# Altium footprint library Indicator.PcbLib: 51 footprints (part 1 of 4)
Each footprint in its own frame and in the unit in brackets; x right, y up, seen from the top. Pads: shape width x height; smd on the part's side, far side on the other; paste and mask are expansions set on the pad; w line width, h text height; cw(c..) or ccw(c..) is an arc to the next point about the centre after c.
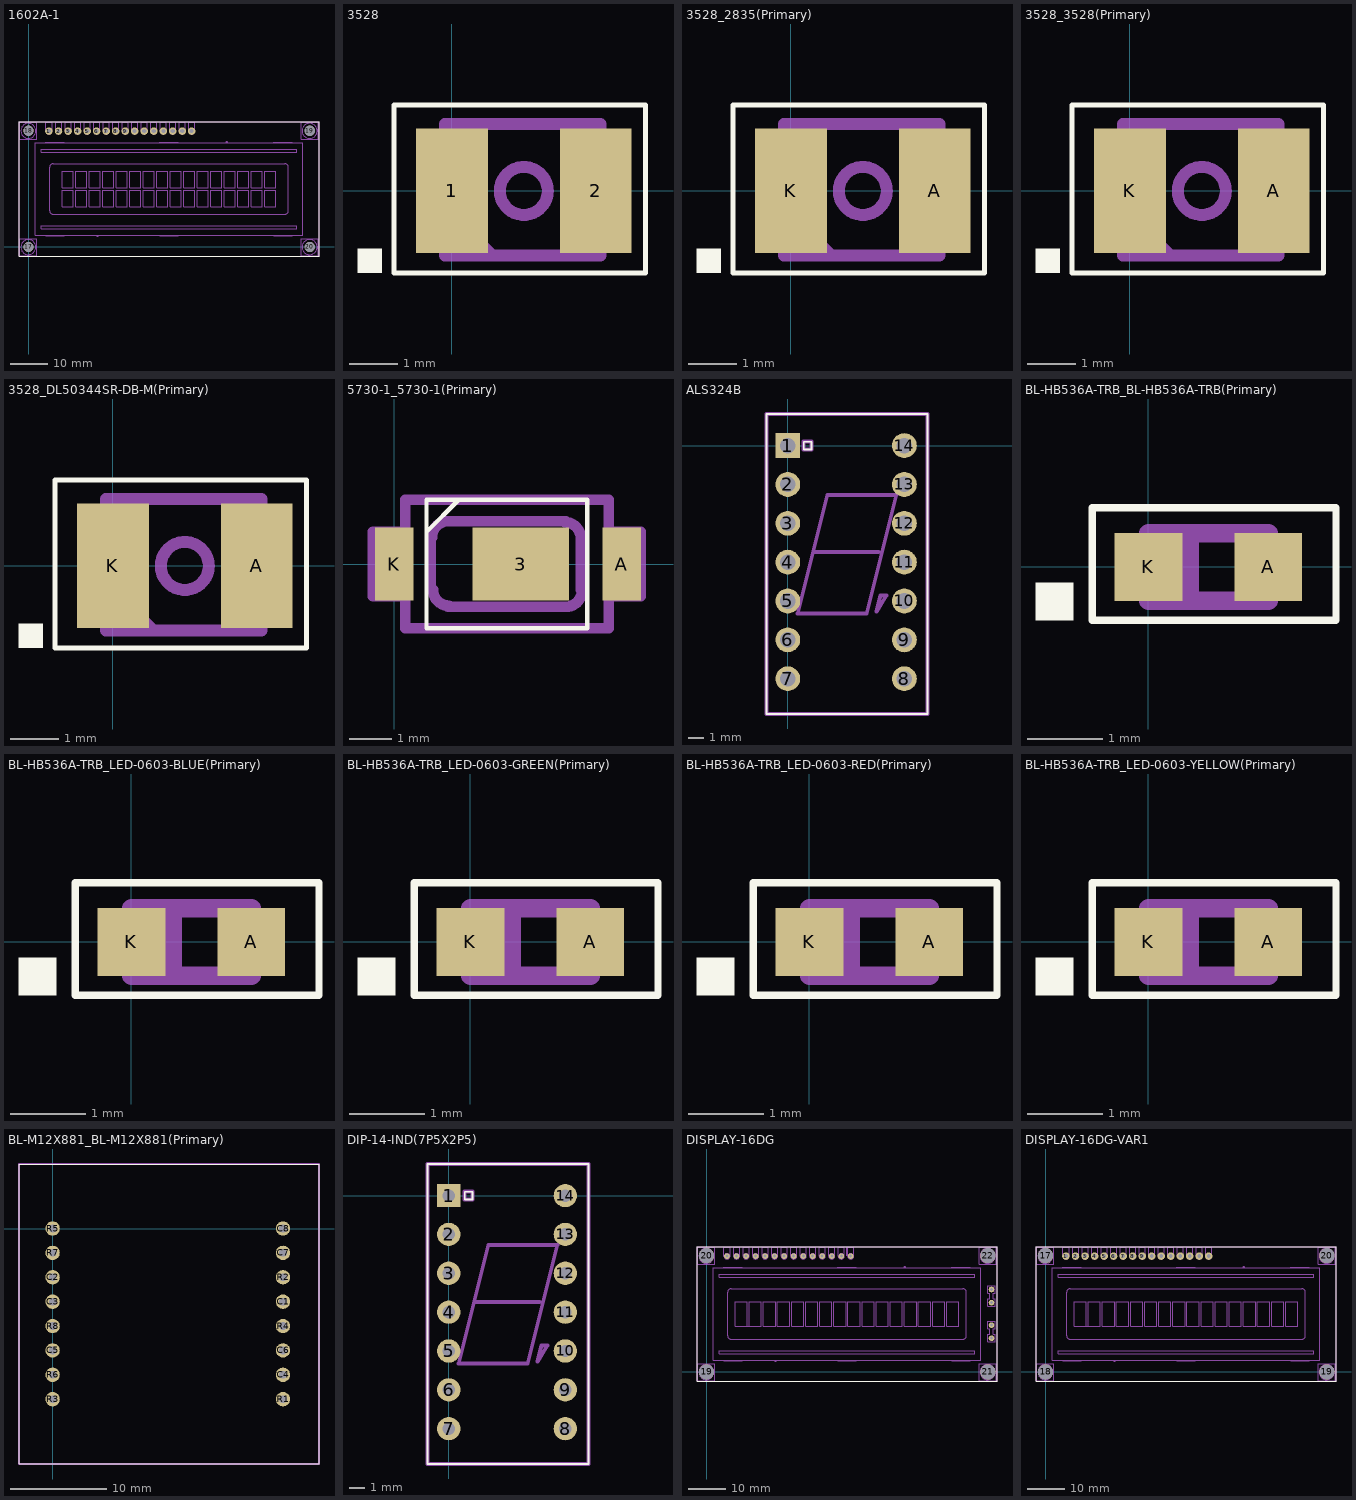
[diagram p0: the footprints below, top view; thin cyan lines are the x and y axes]

## 1602A-1 [mm]
pads (20):
  round 2 hole 1.1: 1(5.45,30.9) 2(8,30.9) 3(10.55,30.9) 4(13.1,30.9) 5(15.65,30.9) 6(18.15,30.9) 7(20.7,30.9) 8(23.25,30.9) 9(25.8,30.9) 10(28.3,30.9) 11(30.85,30.9) 12(33.4,30.9) 13(35.95,30.9) 14(38.45,30.9) 15(41,30.9) 16(43.5,30.9)
  round 2.7 hole 2.7 unplated: 17(0,0) 18(0,31) 19(75,31) 20(75,0)
Top Overlay:
  lines w0.1: -2.54,-2.54 77.46,-2.54 77.46,33.46 -2.54,33.46 -2.54,-2.54
Mechanical 1:
  drawing of 276 lines, arcs and shapes, not listed

## 3528 [mm]
pads (2):
  rect 1.5x2.6 smd: 1(0,0) 2(3,0)
Top Overlay:
  region: -1.96,-1.71 -1.46,-1.71 -1.46,-1.21 -1.96,-1.21
  lines w0.1: -1.21,-1.71 4.04,-1.71 4.04,1.79 -1.21,1.79 -1.21,-1.71
Mechanical 1:
  lines w0.25: -0.15,-0.35 0.85,-1.35 ; -0.15,-1.35 3.1,-1.35 3.1,1.4 -0.15,1.4 -0.15,-1.35 ; 1,0 ccw(c1.5,0) 2,0 ccw(c1.5,0) 1,0

## 3528_2835(Primary) [mm]
pads (2):
  rect 1.5x2.6 smd: A(3,0) K(0,0)
Top Overlay:
  region: -1.96,-1.71 -1.46,-1.71 -1.46,-1.21 -1.96,-1.21
  lines w0.1: -1.21,-1.71 4.04,-1.71 4.04,1.79 -1.21,1.79 -1.21,-1.71
Mechanical 1:
  lines w0.25: -0.15,-0.35 0.85,-1.35 ; -0.15,-1.35 3.1,-1.35 3.1,1.4 -0.15,1.4 -0.15,-1.35 ; 1,0 ccw(c1.5,0) 2,0 ccw(c1.5,0) 1,0

## 3528_3528(Primary) [mm]
pads (2):
  rect 1.5x2.6 smd: A(3,0) K(0,0)
Top Overlay:
  region: -1.96,-1.71 -1.46,-1.71 -1.46,-1.21 -1.96,-1.21
  lines w0.1: -1.21,-1.71 4.04,-1.71 4.04,1.79 -1.21,1.79 -1.21,-1.71
Mechanical 1:
  lines w0.25: -0.15,-0.35 0.85,-1.35 ; -0.15,-1.35 3.1,-1.35 3.1,1.4 -0.15,1.4 -0.15,-1.35 ; 1,0 ccw(c1.5,0) 2,0 ccw(c1.5,0) 1,0

## 3528_DL50344SR-DB-M(Primary) [mm]
pads (2):
  rect 1.5x2.6 smd: A(3,0) K(0,0)
Top Overlay:
  region: -1.96,-1.71 -1.46,-1.71 -1.46,-1.21 -1.96,-1.21
  lines w0.1: -1.21,-1.71 4.04,-1.71 4.04,1.79 -1.21,1.79 -1.21,-1.71
Mechanical 1:
  lines w0.25: -0.15,-0.35 0.85,-1.35 ; -0.15,-1.35 3.1,-1.35 3.1,1.4 -0.15,1.4 -0.15,-1.35 ; 1,0 ccw(c1.5,0) 2,0 ccw(c1.5,0) 1,0

## 5730-1_5730-1(Primary) [mm]
pads (3):
  rect 2.25x1.7 smd: 3(2.95,0)
  rect 0.9x1.7 smd: A(5.3,0) K(0,0)
Top Overlay:
  lines w0.1: 0.75,0.75 1.5,1.5 ; 0.75,-1.5 4.5,-1.5 4.5,1.5 0.75,1.5 0.75,-1.5
Mechanical 1:
  lines w0.25: 0.25,-0.75 -0.5,-0.75 -0.5,0.75 0.25,0.75 ; 0.85,-0.6 0.85,0.65 ; 0.875,0.625 cw(c1.25,0.625) 1.25,1 4,1 ; 0.9,-0.6 ccw(c1.275,-0.6) 1.275,-0.975 ; 1.25,-1 4,-1 ccw(c4,-0.625) 4.375,-0.625 ; 3.975,0.975 cw(c3.975,0.6) 4.35,0.6 4.35,-0.6 ; 5,-0.75 5.75,-0.75 5.75,0.75 5,0.75 ; 0.25,-1.5 5,-1.5 5,1.5 0.25,1.5 0.25,-1.5

## ALS324B [mm]
pads (14):
  rect 1.6x1.6 hole 1: 1(0,0)
  round 1.6 hole 1: 2(0,-2.5) 3(0,-5) 4(0,-7.5) 5(0,-10) 6(0,-12.5) 7(0,-15) 8(7.5,-15) 9(7.5,-12.5) 10(7.5,-10) 11(7.5,-7.5) 12(7.5,-5) 13(7.5,-2.5) 14(7.5,0)
Top Overlay:
  lines w0.1: -1.372,-17.272 8.992,-17.272 8.992,2.032 -1.372,2.032 -1.372,-17.272 ; 1.016,-0.254 1.524,-0.254 1.524,0.254 1.016,0.254 1.016,-0.254
Mechanical 1:
  lines w0.25: 1.778,-6.858 5.842,-6.858 ; -1.372,-17.272 8.992,-17.272 8.992,2.032 -1.372,2.032 -1.372,-17.272 ; 0.635,-10.795 2.54,-3.175 6.985,-3.175 5.08,-10.795 0.635,-10.795 ; 1.016,-0.254 1.524,-0.254 1.524,0.254 1.016,0.254 1.016,-0.254 ; 5.715,-10.668 6.35,-9.652 5.969,-9.652 5.715,-10.668

## BL-HB536A-TRB_BL-HB536A-TRB(Primary) [mm]
pads (2):
  rect 0.9x0.9 smd: A(1.6,0) K(0,0)
Top Overlay:
  region: -1,-0.71 -1,-0.21 -1.5,-0.21 -1.5,-0.71
  lines w0.1: -0.75,-0.71 2.5,-0.71 2.5,0.79 -0.75,0.79 -0.75,-0.71
Mechanical 1:
  lines w0.25: 0,-0.45 0,0.45 1.6,0.45 1.6,-0.45 0,-0.45 ; 0,0 0.55,-0.45 0.55,0.45 0,0

## BL-HB536A-TRB_LED-0603-BLUE(Primary) [mm]
pads (2):
  rect 0.9x0.9 smd: A(1.6,0) K(0,0)
Top Overlay:
  region: -1,-0.71 -1,-0.21 -1.5,-0.21 -1.5,-0.71
  lines w0.1: -0.75,-0.71 2.5,-0.71 2.5,0.79 -0.75,0.79 -0.75,-0.71
Mechanical 1:
  lines w0.25: 0,-0.45 0,0.45 1.6,0.45 1.6,-0.45 0,-0.45 ; 0,0 0.55,-0.45 0.55,0.45 0,0

## BL-HB536A-TRB_LED-0603-GREEN(Primary) [mm]
pads (2):
  rect 0.9x0.9 smd: A(1.6,0) K(0,0)
Top Overlay:
  region: -1,-0.71 -1,-0.21 -1.5,-0.21 -1.5,-0.71
  lines w0.1: -0.75,-0.71 2.5,-0.71 2.5,0.79 -0.75,0.79 -0.75,-0.71
Mechanical 1:
  lines w0.25: 0,-0.45 0,0.45 1.6,0.45 1.6,-0.45 0,-0.45 ; 0,0 0.55,-0.45 0.55,0.45 0,0

## BL-HB536A-TRB_LED-0603-RED(Primary) [mm]
pads (2):
  rect 0.9x0.9 smd: A(1.6,0) K(0,0)
Top Overlay:
  region: -1,-0.71 -1,-0.21 -1.5,-0.21 -1.5,-0.71
  lines w0.1: -0.75,-0.71 2.5,-0.71 2.5,0.79 -0.75,0.79 -0.75,-0.71
Mechanical 1:
  lines w0.25: 0,-0.45 0,0.45 1.6,0.45 1.6,-0.45 0,-0.45 ; 0,0 0.55,-0.45 0.55,0.45 0,0

## BL-HB536A-TRB_LED-0603-YELLOW(Primary) [mm]
pads (2):
  rect 0.9x0.9 smd: A(1.6,0) K(0,0)
Top Overlay:
  region: -1,-0.71 -1,-0.21 -1.5,-0.21 -1.5,-0.71
  lines w0.1: -0.75,-0.71 2.5,-0.71 2.5,0.79 -0.75,0.79 -0.75,-0.71
Mechanical 1:
  lines w0.25: 0,-0.45 0,0.45 1.6,0.45 1.6,-0.45 0,-0.45 ; 0,0 0.55,-0.45 0.55,0.45 0,0

## BL-M12X881_BL-M12X881(Primary) [mm]
pads (16):
  round 1.5 hole 0.8: C1(24,-7.62) C2(0,-5.08) C3(0,-7.62) C4(24,-15.24) C5(0,-12.7) C6(24,-12.7) C7(24,-2.54) C8(24,0) R1(24,-17.78) R2(24,-5.08) R3(0,-17.78) R4(24,-10.16) R5(0,0) R6(0,-15.24) R7(0,-2.54) R8(0,-10.16)
Top Overlay:
  lines w0.1: -3.5,-24.53 27.75,-24.53 27.75,6.72 -3.5,6.72 -3.5,-24.53
Mechanical 1:
  lines w0.25: -3.5,-24.53 27.75,-24.53 27.75,6.72 -3.5,6.72 -3.5,-24.53

## DIP-14-IND(7P5X2P5) [mm]
pads (14):
  rect 1.5x1.5 hole 0.8: 1(0,0)
  round 1.5 hole 0.8: 2(0,-2.5) 3(0,-5) 4(0,-7.5) 5(0,-10) 6(0,-12.5) 7(0,-15) 8(7.5,-15) 9(7.5,-12.5) 10(7.5,-10) 11(7.5,-7.5) 12(7.5,-5) 13(7.5,-2.5) 14(7.5,0)
Top Overlay:
  lines w0.1: -1.372,-17.272 8.992,-17.272 8.992,2.032 -1.372,2.032 -1.372,-17.272 ; 1.016,-0.254 1.524,-0.254 1.524,0.254 1.016,0.254 1.016,-0.254
Mechanical 1:
  lines w0.25: 1.778,-6.858 5.842,-6.858 ; -1.372,-17.272 8.992,-17.272 8.992,2.032 -1.372,2.032 -1.372,-17.272 ; 0.635,-10.795 2.54,-3.175 6.985,-3.175 5.08,-10.795 0.635,-10.795 ; 1.016,-0.254 1.524,-0.254 1.524,0.254 1.016,0.254 1.016,-0.254 ; 5.715,-10.668 6.35,-9.652 5.969,-9.652 5.715,-10.668

## DISPLAY-16DG [mm]
pads (22):
  round 1.5 hole 0.8: 1(5.45,30.9) 2(8,30.9) 3(10.55,30.9) 4(13.1,30.9) 5(15.65,30.9) 6(18.15,30.9) 7(20.7,30.9) 8(23.25,30.9) 9(25.8,30.9) 10(28.3,30.9) 11(30.85,30.9) 12(33.4,30.9) 13(35.95,30.9) 14(38.45,30.9) 15(76,9) 16(76,12.5) 17(76,18.5) 18(76,22)
  round 4 hole 4 unplated: 19(0,0) 20(0,31) 21(75,0) 22(75,31)
Top Overlay:
  lines w0.1: -2.54,-2.54 77.46,-2.54 77.46,33.46 -2.54,33.46 -2.54,-2.54
Mechanical 1:
  drawing of 228 lines, arcs and shapes, not listed

## DISPLAY-16DG-VAR1 [mm]
pads (20):
  round 2 hole 1: 1(5.45,30.9) 2(8,30.9) 3(10.55,30.9) 4(13.1,30.9) 5(15.65,30.9) 6(18.15,30.9) 7(20.7,30.9) 8(23.25,30.9) 9(25.8,30.9) 10(28.3,30.9) 11(30.85,30.9) 12(33.4,30.9) 13(35.95,30.9) 14(38.45,30.9) 15(41,30.9) 16(43.5,30.9)
  round 4 hole 4 unplated: 17(0,31) 18(0,0) 19(75,0) 20(75,31)
Top Overlay:
  lines w0.1: -2.54,-2.54 77.46,-2.54 77.46,33.46 -2.54,33.46 -2.54,-2.54
Mechanical 1:
  drawing of 213 lines, arcs and shapes, not listed